# Altium schematic symbol library Capacitors.SchLib: 34 symbols
Pins are listed as number, name and electrical type; pins without a type are passive.

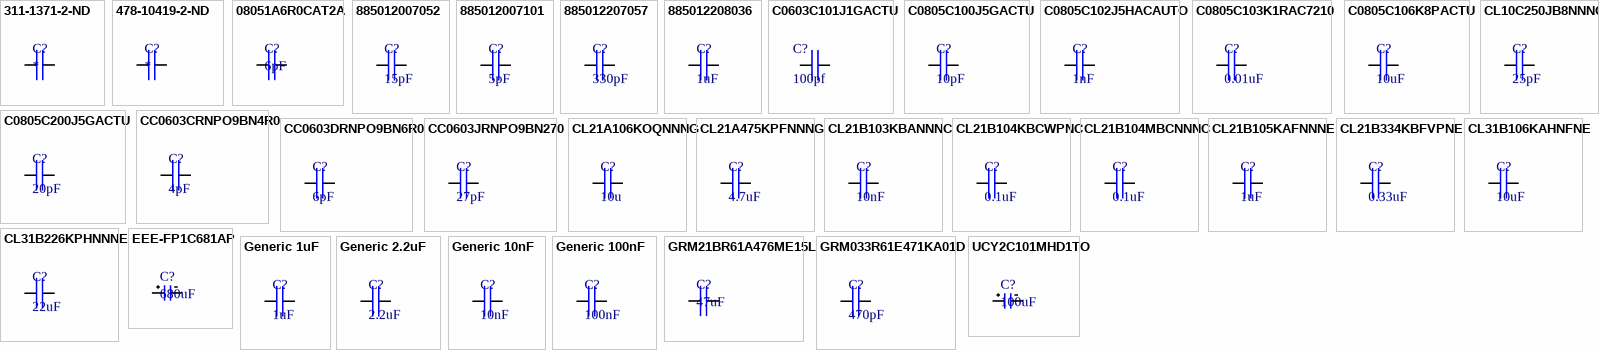
[diagram p0: symbols 311-1371-2-ND to UCY2C101MHD1TO]

## 311-1371-2-ND
designator C?
CAP CER 4.7UF 10V Y5V 0805; Manufacturer 1: Yageo; Manufacturer Part Number 1: CC0805ZRY5V6BB475; Tolerance: 80%; Supplier 1: Digi-Key; Stock 1: 117585; Pricing 1: 1=0.19000, 10=0.13200, 100=0.06670, 500=0.04564, 1000=0.04037 (USD); RoHS: Yes; Mount: Surface Mount; Case/Package: 0805; Number of Pins: 2; Case Code (Metric): 2012; Case Code (Imperial): 0805; Min Operating Temperature: -30°C; Max Operating Temperature: 85°C; Package Quantity: 1; Capacitance: 4.7uF; Voltage Rating: 10V; Packaging: Tape and Reel; Voltage Rating (DC): 10V; Dielectric: Y5V; Termination: SMD/SMT; Composition: Ceramic; Length: 2mm; Height: 0.85mm; Width: 0.049inch; Thickness: 0.033inch; Depth: 1.25mm; Radiation Hardening: No; REACH SVHC: Unknown; Lead Free: Lead Free; Halogen Free: Halogen Free; ComponentLink1URL: https://datasheet.ciiva.com/26863/getdatasheetpartid-251807-26863009.pdf?src-supplier=Verical; ComponentLink1Description: https://datasheet.ciiva.com/26863/getdatasheetpartid-251807-26863009.pdf?src-supplier=Verical; ComponentLink2URL: https://datasheet.ciiva.com/144/mlccorderingcode-144864.pdf?src-supplier=Digi-Key; ComponentLink2Description: https://datasheet.ciiva.com/144/mlccorderingcode-144864.pdf?src-supplier=Digi-Key; ComponentLink3URL: https://datasheet.ciiva.com/144/mlccorderingcode-144865.pdf?src-supplier=Digi-Key; ComponentLink3Description: https://datasheet.ciiva.com/144/mlccorderingcode-144865.pdf?src-supplier=Digi-Key; ComponentLink4URL: https://datasheet.ciiva.com/11465/upy-gphc-y5v-6-3v-to-50v-5-11465845.pdf?src-supplier=Avnet; ComponentLink4Description: https://datasheet.ciiva.com/11465/upy-gphc-y5v-6-3v-to-50v-5-11465845.pdf?src-supplier=Avnet; ComponentLink5URL: https://datasheet.ciiva.com/16624/upy-gphc-y5v-6-3v-to-50v-5-16624679.pdf?src-supplier=Avnet+Europe; ComponentLink5Description: https://datasheet.ciiva.com/16624/upy-gphc-y5v-6-3v-to-50v-5-16624679.pdf?src-supplier=Avnet+Europe; ComponentLink6URL: https://datasheet.ciiva.com/28450/1132289-28450855.pdf?src-supplier=Element14; ComponentLink6Description: https://datasheet.ciiva.com/28450/1132289-28450855.pdf?src-supplier=Element14; ComponentLink7URL: https://datasheet.ciiva.com/7978/1132289-7978222.pdf?src-supplier=Element14; ComponentLink7Description: https://datasheet.ciiva.com/7978/1132289-7978222.pdf?src-supplier=Element14; ComponentLink8URL: https://datasheet.ciiva.com/144/mlccorderingcode-144863.pdf?src-supplier=Digi-Key; ComponentLink8Description: https://datasheet.ciiva.com/144/mlccorderingcode-144863.pdf?src-supplier=Digi-Key; ComponentLink9URL: https://datasheet.ciiva.com/5425/upy-gp-np0-16v-to-50v-8-5425455.pdf?src-supplier=Mouser; ComponentLink9Description: https://datasheet.ciiva.com/5425/upy-gp-np0-16v-to-50v-8-5425455.pdf?src-supplier=Mouser; ComponentLink10URL: https://datasheet.ciiva.com/17004/upy-gphc-y5v-6-3v-to-50v-5-revised-17004479.pdf?src-supplier=Future+Electronics; ComponentLink10Description: https://datasheet.ciiva.com/17004/upy-gphc-y5v-6-3v-to-50v-5-revised-17004479.pdf?src-supplier=Future+Electronics; Supplier Part Number 1: 311-1371-1-ND
footprint C0805
pins: 1, 2

## 478-10419-2-ND
designator C?
CAP CER 9PF 100V NP0 0805; Manufacturer 1: Kyocera AVX; Manufacturer Part Number 1: 08051A9R0CAT2A; Dielectric: C0G; Supplier 1: Digi-Key; Stock 1: 10689; Pricing 1: 1=0.24000, 10=0.16700, 100=0.09460, 500=0.06680, 1000=0.05844 (USD); RoHS: Yes; Mount: Surface Mount; Case/Package: 0805; Weight: 0.000194oz; Case Code (Imperial): 0805; Case Code (Metric): 2012; Min Operating Temperature: -55°C; Max Operating Temperature: 125°C; Packaging: Tape and Reel; Capacitance: 9pF; Package Quantity: 4000; Voltage Rating: 100V; Voltage Rating (DC): 100V; Termination: SMD/SMT; Length: 2.01mm; Width: 1.25mm; Thickness: 0.037inch; Depth: 1.25mm; Radiation Hardening: No; ComponentLink1URL: https://datasheet.ciiva.com/11569/ccog-11569685.pdf?src-supplier=Avnet; ComponentLink1Description: https://datasheet.ciiva.com/11569/ccog-11569685.pdf?src-supplier=Avnet; ComponentLink2URL: https://datasheet.ciiva.com/5435/ccog-243403-5435993.pdf?src-supplier=Mouser; ComponentLink2Description: https://datasheet.ciiva.com/5435/ccog-243403-5435993.pdf?src-supplier=Mouser; ComponentLink3URL: https://datasheet.ciiva.com/204/ccog-204956.pdf?src-supplier=Digi-Key; ComponentLink3Description: https://datasheet.ciiva.com/204/ccog-204956.pdf?src-supplier=Digi-Key; Supplier Part Number 1: 478-10419-1-ND
pins: 1, 2

## 08051A6R0CAT2A
designator C?, comment 6pF
CAP CER 6PF 100V C0G/NP0 0805; Capacitance: 9pF; Dielectric: C0G; RoHS: Yes; Mount: Surface Mount; Case/Package: 0805; Weight: 0.000194oz; Case Code (Imperial): 0805; Case Code (Metric): 2012; Min Operating Temperature: -55°C; Max Operating Temperature: 125°C; Packaging: Tape and Reel; Package Quantity: 4000; Voltage Rating: 100V; Voltage Rating (DC): 100V; Termination: SMD/SMT; Length: 2.01mm; Width: 1.25mm; Thickness: 0.037inch; Depth: 1.25mm; Radiation Hardening: No; ComponentLink1Description: https://www.digikey.com/product-detail/en/avx-corporation/08051A6R0CAT2A/478-10411-2-ND/1601219; ComponentLink1URL: https://www.digikey.com/product-detail/en/avx-corporation/08051A6R0CAT2A/478-10411-2-ND/1601219; Supplier 1: Digi-Key; Supplier Part Number 1: 478-10411-2-ND
footprint C0805
pins: 1, 2

## 885012007052
designator C?, comment 15pF
CAP CER 15PF 50V C0G/NP0 0805; Manufacturer: Wurth Electronics; Manufacturer Part Number: 885012007052; Tolerance: 5%; Supplier 1: Digi-Key; Supplier Part Number 1: 732-7847-1-ND; RoHS: Yes; Category: Ceramic Capacitors; Stock 1: 5633; Mount: Surface Mount; Case/Package: 0805; Case Code (Metric): 2012; Case Code (Imperial): 0805; Min Operating Temperature: -55°C; Max Operating Temperature: 125°C; Packaging: Cut Tape; Capacitance: 15pF; Voltage Rating: 50V; Length: 0.079inch; Width: 0.049inch; Thickness: 0.028inch; ComponentLink1URL: http://www.farnell.com/datasheets/2031702.pdf?src-supplier=Farnell; ComponentLink1Description: http://www.farnell.com/datasheets/2031702.pdf?src-supplier=Farnell; ComponentLink2URL: https://katalog.we-online.de/pbs/datasheet/885012007052.pdf?src-supplier=Digi-Key; ComponentLink2Description: https://katalog.we-online.de/pbs/datasheet/885012007052.pdf?src-supplier=Digi-Key; ComponentLink3URL: http://katalog.we-online.de/pbs/datasheet/885012007052.pdf?src-supplier=Digi-Key; ComponentLink3Description: http://katalog.we-online.de/pbs/datasheet/885012007052.pdf?src-supplier=Digi-Key
footprint 0805
pins: 1, 2

## 885012007101
designator C?, comment 5pF
CAP CER 5PF 100V C0G/NP0 0805; Manufacturer: Wurth Electronics; Manufacturer Part Number: 885012007101; Supplier 1: Digi-Key; Supplier Part Number 1: 732-12221-1-ND; RoHS: No; Stock 1: 1082; Mount: Surface Mount; Case/Package: 0805; Case Code (Imperial): 0805; Case Code (Metric): 2012; Min Operating Temperature: -55°C; Max Operating Temperature: 125°C; Packaging: Cut Tape; Capacitance: 5pF; Voltage Rating: 100V; ComponentLink1URL: https://katalog.we-online.de/pbs/datasheet/885012007101.pdf?src-supplier=Digi-Key; ComponentLink1Description: https://katalog.we-online.de/pbs/datasheet/885012007101.pdf?src-supplier=Digi-Key
footprint 0805
pins: 1, 2

## 885012207057
designator C?, comment 330pF
330pF 25V Ceramic Capacitor X7R 0805 (2012 Metric) 0.079" L x 0.049" W (2.00mm x 1.25mm); Manufacturer: Wurth Electronics; Manufacturer Part Number: 885012207057; Tolerance: 10%; Supplier 1: Digi-Key; Supplier Part Number 1: 732-8049-1-ND; RoHS: Yes; Category: Ceramic Capacitors; Stock 1: 4138; Mount: Surface Mount; Case/Package: 0805; Case Code (Imperial): 0805; Case Code (Metric): 2012; Min Operating Temperature: -55°C; Max Operating Temperature: 125°C; Packaging: Cut Tape; Capacitance: 330pF; Voltage Rating: 25V; Length: 0.079inch; Width: 0.049inch; Thickness: 0.035inch; ComponentLink1URL: http://www.farnell.com/datasheets/2546889.pdf?src-supplier=Farnell; ComponentLink1Description: http://www.farnell.com/datasheets/2546889.pdf?src-supplier=Farnell; ComponentLink2URL: https://katalog.we-online.de/pbs/datasheet/885012207057.pdf?src-supplier=Digi-Key; ComponentLink2Description: https://katalog.we-online.de/pbs/datasheet/885012207057.pdf?src-supplier=Digi-Key
footprint C0805
pins: 1, 2

## 885012208036
designator C?, comment 1uF
CAP CER 1UF 16V X7R 1206; Manufacturer: Wurth Electronics; Manufacturer Part Number: 885012208036; Tolerance: 10%; Supplier 1: Digi-Key; Supplier Part Number 1: 732-7692-1-ND; RoHS: Yes; Category: Ceramic Capacitors; Stock 1: 2993; Mount: Surface Mount; Case/Package: 1206; Case Code (Imperial): 1206; Case Code (Metric): 3216; Min Operating Temperature: -55°C; Max Operating Temperature: 125°C; Packaging: Tape and Reel; Capacitance: 1uF; Voltage Rating: 16V; Length: 0.126inch; Width: 0.063inch; Thickness: 0.051inch; ComponentLink1URL: http://katalog.we-online.de/pbs/datasheet/885012208036.pdf?src-supplier=Digi-Key; ComponentLink1Description: http://katalog.we-online.de/pbs/datasheet/885012208036.pdf?src-supplier=Digi-Key; ComponentLink2URL: https://katalog.we-online.de/pbs/datasheet/885012208036.pdf?src-supplier=Digi-Key; ComponentLink2Description: https://katalog.we-online.de/pbs/datasheet/885012208036.pdf?src-supplier=Digi-Key
footprint 1206
pins: 1, 2

## C0603C101J1GACTU
designator C?, comment 100pf
KEMET - C0603C101J1GACTU - Multilayer Ceramic Capacitor, C Series, 100 pF, - 5%, C0G / NP0, 100 V, 0603 [1608 Metric] RoHS Compliant: Yes; Voltage Rating (DC): 100V; Supplier 1: Digi-Key; Manufacturer: KEMET; Manufacturer Part Number: C0603C101J1GACTU; RoHS: Yes; Category: Ceramic Capacitors; Stock 1: 130500; Pricing 1: 1=0.10000, 10=0.06000, 100=0.02670, 500=0.01906, 1000=0.01497 (USD); Mount: Surface Mount; Case/Package: 0603; Dielectric Material: Ceramic; Min Operating Temperature: -55°C; Max Operating Temperature: 125°C; Capacitance: 100pF; Tolerance: 5%; Packaging: Tape and Reel; Dielectric: C0G; Length: 1.6mm; Height: 0.8mm; Depth: 0.8mm; Radiation Hardening: No; Lead Free: Lead Free; ComponentLink1URL: https://datasheet.ciiva.com/18192/getdatasheetpartid-308025-18192620.pdf?src-supplier=Verical; ComponentLink1Description: https://datasheet.ciiva.com/18192/getdatasheetpartid-308025-18192620.pdf?src-supplier=Verical; Supplier Part Number 1: 399-7821-1-ND
footprint 0603
pins: 1, 2

## C0805C100J5GACTU
designator C?, comment 10pF
KEMET - C0805C100J5GACTU - Condensateur céramique multicouche CMS, 10 pF, 50 V, 0805 [2012 Metric], ± 5%, C0G / NP0; Dielectric Material: Ceramic; Voltage Rating (DC): 50V; Dissipation Factor: 0.1%; Temperature Coefficient: 30ppm/°C; Supplier 1: Digi-Key; Manufacturer: KEMET; Manufacturer Part Number: C0805C100J5GACTU; RoHS: Yes; Category: Ceramic Capacitors; Stock 1: 197702; Pricing 1: 1=0.11000, 10=0.08100, 100=0.03800, 500=0.02664, 1000=0.02205 (USD); Mount: PCB,Surface Mount; Case/Package: 0805; Number of Pins: 2; Case Code (Metric): 2012; Case Code (Imperial): 0805; Contact Plating: Tin,Matte; Contact Material: Tin; Min Operating Temperature: -55°C; Max Operating Temperature: 125°C; Capacitance: 10pF; Packaging: Tape and Reel; Dielectric: C0G; Termination: SMD/SMT; Package Quantity: 4000; Voltage Rating: 50V; Tolerance: 5%; Voltage: 50V; Length: 2mm; Height: 0.78mm; Width: 1.2mm; Depth: 1.25mm; Thickness: 0.035inch; Lead Pitch: 0.75mm; Radiation Hardening: No; Lead Free: Lead Free; REACH SVHC: No SVHC; ComponentLink1URL: https://datasheet.ciiva.com/2988/kem-c1003-c0g-smd-2988556.pdf?src-supplier=Avnet; ComponentLink1Description: https://datasheet.ciiva.com/2988/kem-c1003-c0g-smd-2988556.pdf?src-supplier=Avnet; ComponentLink2URL: https://datasheet.ciiva.com/6177/kem-c1003-c0g-smd-6177333.pdf?src-supplier=Farnell; ComponentLink2Description: https://datasheet.ciiva.com/6177/kem-c1003-c0g-smd-6177333.pdf?src-supplier=Farnell; ComponentLink3URL: https://datasheet.ciiva.com/5423/kem-c1003-c0g-smd-356956-5423483.pdf?src-supplier=Mouser; ComponentLink3Description: https://datasheet.ciiva.com/5423/kem-c1003-c0g-smd-356956-5423483.pdf?src-supplier=Mouser; ComponentLink4URL: https://datasheet.ciiva.com/14609/70095383-14609227.pdf?src-supplier=Allied+Electronics; ComponentLink4Description: https://datasheet.ciiva.com/14609/70095383-14609227.pdf?src-supplier=Allied+Electronics; Supplier Part Number 1: 399-1108-1-ND
footprint 0805
pins: 1, 2

## C0805C102J5HACAUTO
designator C?, comment 1nF
CAP CER 0805 1NF 50V ULTRA STABL; Manufacturer: KEMET; Manufacturer Part Number: C0805C102J5HACAUTO; Supplier 1: Digi-Key; Supplier Part Number 1: 399-16591-1-ND; Stock 1: 1854; Pricing 1: 1 = 0.21000, 10 = 0.15100, 100 = 0.07080, 500 = 0.04964, 1000 = 0.04109 (USD); RoHS: No; ComponentLink1URL: https://api.kemet.com/component-edge/download/datasheet/C0805C102J5HACAUTO.pdf?src-supplier=Digi-Key; ComponentLink1Description: https://api.kemet.com/component-edge/download/datasheet/C0805C102J5HACAUTO.pdf?src-supplier=Digi-Key; Category: Capacitors
footprint C0805
pins: 1, 2

## C0805C103K1RAC7210
designator C?, comment 0.01uF
Cap Ceramic 0.01uF 100V X7R 10% SMD 0805 125C T/R; Manufacturer: KEMET; Manufacturer Part Number: C0805C103K1RAC7210; Capacitance: 10nF; Supplier 1: Digi-Key; Supplier Part Number 1: 399-17617-1-ND; RoHS: Yes; Category: Ceramic Capacitors; Stock 1: 43378; Mount: Surface Mount; Case/Package: 0805; Case Code (Imperial): 0805; Case Code (Metric): 2012; Dielectric Material: Ceramic; Min Operating Temperature: -55°C; Max Operating Temperature: 125°C; Dielectric: X7R; Tolerance: 10%; Termination: SMD/SMT; Packaging: Tape and Reel; Package Quantity: 10000; Voltage Rating: 100V; Voltage Rating (DC): 100V; Length: 2mm; Height: 0.78mm; Depth: 1.25mm; Radiation Hardening: No; ComponentLink1URL: http://www.mouser.com/ds/2/212/KEM_C1002_X7R_SMD-1102033.pdf?src-supplier=Mouser; ComponentLink1Description: http://www.mouser.com/ds/2/212/KEM_C1002_X7R_SMD-1102033.pdf?src-supplier=Mouser; ComponentLink2URL: https://www.verical.com/server-webapp/html/getDatasheet?partID=131027&src-supplier=Verical; ComponentLink2Description: https://www.verical.com/server-webapp/html/getDatasheet?partID=131027&src-supplier=Verical; ComponentLink3URL: http://components.arrow.com/part/dataview/0323_00324583?src-supplier=Arrow+Europe; ComponentLink3Description: http://components.arrow.com/part/dataview/0323_00324583?src-supplier=Arrow+Europe; ComponentLink4URL: http://www.farnell.com/datasheets/2747800.pdf?src-supplier=Farnell; ComponentLink4Description: http://www.farnell.com/datasheets/2747800.pdf?src-supplier=Farnell; ComponentLink5URL: http://components.arrow.com/part/dataview/2091052S6675795N7429?src-supplier=Arrow; ComponentLink5Description: http://components.arrow.com/part/dataview/2091052S6675795N7429?src-supplier=Arrow; ComponentLink6URL: http://www.farnell.com/datasheets/2747800.pdf?src-supplier=Newark; ComponentLink6Description: http://www.farnell.com/datasheets/2747800.pdf?src-supplier=Newark; ComponentLink7URL: http://www.kemet.com/kemet/web/homepage/kechome.nsf/weben/C4DA2DA1D1C9D3C3CA2570A50016092D/$file/KEM_C1002_X7R_SMD.pdf?src-supplier=Avnet+Europe; ComponentLink7Description: http://www.kemet.com/kemet/web/homepage/kechome.nsf/weben/C4DA2DA1D1C9D3C3CA2570A50016092D/$file/KEM_C1002_X7R_SMD.pdf?src-supplier=Avnet+Europe; ComponentLink8URL: http://www.kemet.com/kemet/web/homepage/kechome.nsf/weben/C4DA2DA1D1C9D3C3CA2570A50016092D/$file/KEM_C1002_X7R_SMD.pdf?src-supplier=Avnet; ComponentLink8Description: http://www.kemet.com/kemet/web/homepage/kechome.nsf/weben/C4DA2DA1D1C9D3C3CA2570A50016092D/$file/KEM_C1002_X7R_SMD.pdf?src-supplier=Avnet; ComponentLink9URL: https://api.kemet.com/component-edge/download/datasheet/C0805C103K1RAC7210.pdf?src-supplier=Digi-Key; ComponentLink9Description: https://api.kemet.com/component-edge/download/datasheet/C0805C103K1RAC7210.pdf?src-supplier=Digi-Key
footprint 0805
pins: 1, 2

## C0805C106K8PACTU
designator C?, comment 10uF
CAP CER 10UF 10V X5R 0805; Manufacturer: Samsung; Manufacturer Part Number: CL21B105KAFNNNE; Capacitance: 1uF; Tolerance: 10%; Voltage Rating: 25V; Dielectric: X7R; RoHS: Yes; Mount: Surface Mount; Case/Package: 0805; Contact Plating: Tin; Case Code (Metric): 2012; Case Code (Imperial): 0805; Min Operating Temperature: -55°C; Max Operating Temperature: 125°C; Packaging: Tape and Reel; Package Quantity: 1; Voltage: 25V; Voltage Rating (DC): 25V; Length: 2mm; Height: 1.25mm; Depth: 1.25mm; Width: 0.049inch; Thickness: 0.053inch; Radiation Hardening: No; Lead Free: Lead Free; Category: Capacitors; ComponentLink1Description: https://www.digikey.ca/product-detail/en/kemet/C0805C106K8PACTU/399-4925-1-ND/1090920; ComponentLink1URL: https://www.digikey.ca/product-detail/en/kemet/C0805C106K8PACTU/399-4925-1-ND/1090920; Supplier 1: Digi-Key; Supplier Part Number 1: 399-4925-1-ND
footprint C0805
pins: 1, 2

## C0805C200J5GACTU
designator C?, comment 20pF
CAP CER 20PF 50V C0G/NP0 0805; Manufacturer: Samsung; Manufacturer Part Number: CL21B103KBANNNC; Material: Ceramic; Capacitance: 10nF; Tolerance: 10%; Dielectric: X7R; RoHS: Yes; Mount: Surface Mount; Case/Package: 0805; Case Code (Metric): 2012; Case Code (Imperial): 0805; Contact Plating: Tin; Min Operating Temperature: -55°C; Max Operating Temperature: 125°C; Packaging: Tape and Reel; Voltage Rating: 50V; Voltage: 50V; Voltage Rating (DC): 50V; Length: 2mm; Height: 0.65mm; Width: 0.049inch; Thickness: 0.03inch; Depth: 1.25mm; Radiation Hardening: No; Lead Free: Lead Free; Category: Capacitors; ComponentLink1Description: https://www.digikey.com/product-detail/en/kemet/C0805C200J5GACTU/399-8033-1-ND/3471756; ComponentLink1URL: https://www.digikey.com/product-detail/en/kemet/C0805C200J5GACTU/399-8033-1-ND/3471756; Supplier 1: Digi-Key; Supplier Part Number 1: 399-8033-1-ND
footprint C0805
pins: 1, 2

## CC0603CRNPO9BN4R0
designator C?, comment 4pF
CAP CER 4PF 50V C0G/NPO 0603; Manufacturer: Yageo; Manufacturer Part Number: CC0603CRNPO9BN4R0; Dielectric: C0G; Insulation Resistance: 10GR; Supplier 1: Digi-Key; Supplier Part Number 1: 311-1053-1-ND; RoHS: Yes; Category: Ceramic Capacitors; Stock 1: 1954; Mount: Surface Mount; Case/Package: 0603; Number of Pins: 2; Weight: 7.1E-05oz; Case Code (Imperial): 0603; Case Code (Metric): 1608; Min Operating Temperature: -55°C; Max Operating Temperature: 125°C; Termination: SMD/SMT; Composition: Ceramic; Capacitance: 4pF; Packaging: Tape and Reel; Voltage Rating: 50V; Voltage Rating (DC): 50V; Package Quantity: 1; Length: 1.6mm; Thickness: 0.035inch; Depth: 0.8mm; Width: 0.8mm; Lead Free: Lead Free; ComponentLink1URL: https://datasheet.ciiva.com/145/mlccorderingcode-145161.pdf?src-supplier=Digi-Key; ComponentLink1Description: https://datasheet.ciiva.com/145/mlccorderingcode-145161.pdf?src-supplier=Digi-Key; ComponentLink2URL: https://datasheet.ciiva.com/145/mlccorderingcode-145162.pdf?src-supplier=Digi-Key; ComponentLink2Description: https://datasheet.ciiva.com/145/mlccorderingcode-145162.pdf?src-supplier=Digi-Key; ComponentLink3URL: https://datasheet.ciiva.com/145/mlccorderingcode-145163.pdf?src-supplier=Digi-Key; ComponentLink3Description: https://datasheet.ciiva.com/145/mlccorderingcode-145163.pdf?src-supplier=Digi-Key
footprint 0603
pins: 1, 2

## CC0603DRNPO9BN6R0
designator C?, comment 6pF
CAP CER 6PF 50V C0G/NPO 0603; Manufacturer: Yageo; Manufacturer Part Number: CC0603DRNPO9BN6R0; Dielectric: C0G; Supplier 1: Digi-Key; Supplier Part Number 1: 311-1055-1-ND; RoHS: Yes; Category: Ceramic Capacitors; Stock 1: 25117; Mount: Surface Mount; Case/Package: 0603; Weight: 7.1E-05oz; Case Code (Imperial): 0603; Case Code (Metric): 1608; Min Operating Temperature: -55°C; Max Operating Temperature: 125°C; Capacitance: 6pF; Packaging: Tape and Reel; Voltage Rating: 50V; Voltage Rating (DC): 50V; Package Quantity: 1; Termination: SMD/SMT; Composition: Ceramic; Length: 1.6mm; Width: 0.8mm; Thickness: 0.035inch; Depth: 0.8mm; Lead Free: Lead Free; ComponentLink1URL: https://datasheet.ciiva.com/145/mlccorderingcode-145158.pdf?src-supplier=Digi-Key; ComponentLink1Description: https://datasheet.ciiva.com/145/mlccorderingcode-145158.pdf?src-supplier=Digi-Key; ComponentLink2URL: https://datasheet.ciiva.com/145/mlccorderingcode-145159.pdf?src-supplier=Digi-Key; ComponentLink2Description: https://datasheet.ciiva.com/145/mlccorderingcode-145159.pdf?src-supplier=Digi-Key; ComponentLink3URL: https://datasheet.ciiva.com/145/mlccorderingcode-145160.pdf?src-supplier=Digi-Key; ComponentLink3Description: https://datasheet.ciiva.com/145/mlccorderingcode-145160.pdf?src-supplier=Digi-Key
footprint 0603
pins: 1, 2

## CC0603JRNPO9BN270
designator C?, comment 27pF
Cap Ceramic 27pF 50VDC C0G 5% SMD 0603 Paper T/R; Manufacturer: Yageo; Manufacturer Part Number: CC0603JRNPO9BN270; Tolerance: 10%; Voltage: 50V; Insulation Resistance: 100GR; Temperature Coefficient: 0ppm/°C; Supplier 1: Digi-Key; Supplier Part Number 1: 311-1063-1-ND; RoHS: Yes; Category: Ceramic Capacitors; Stock 1: 148250; Mount: Surface Mount; Case/Package: 0603; Number of Pins: 2; Case Code (Metric): 1608; Case Code (Imperial): 0603; Dielectric Material: Ceramic; Min Operating Temperature: -55°C; Max Operating Temperature: 125°C; Dielectric: C0G; Capacitance: 27pF; Package Quantity: 1; Voltage Rating: 50V; Packaging: Tape and Reel; Voltage Rating (DC): 50V; Termination: SMD/SMT; Composition: Ceramic; Length: 1.6mm; Height: 0.8mm; Width: 0.031inch; Thickness: 0.035inch; Depth: 0.8mm; Radiation Hardening: No; REACH SVHC: Unknown; Lead Free: Lead Free; ComponentLink1URL: https://datasheet.ciiva.com/26862/getdatasheetpartid-403529-26862764.pdf?src-supplier=Verical; ComponentLink1Description: https://datasheet.ciiva.com/26862/getdatasheetpartid-403529-26862764.pdf?src-supplier=Verical; ComponentLink2URL: https://datasheet.ciiva.com/144/mlccorderingcode-144640.pdf?src-supplier=Digi-Key; ComponentLink2Description: https://datasheet.ciiva.com/144/mlccorderingcode-144640.pdf?src-supplier=Digi-Key; ComponentLink3URL: https://datasheet.ciiva.com/144/mlccorderingcode-144641.pdf?src-supplier=Digi-Key; ComponentLink3Description: https://datasheet.ciiva.com/144/mlccorderingcode-144641.pdf?src-supplier=Digi-Key; ComponentLink4URL: https://datasheet.ciiva.com/144/mlccorderingcode-144642.pdf?src-supplier=Digi-Key; ComponentLink4Description: https://datasheet.ciiva.com/144/mlccorderingcode-144642.pdf?src-supplier=Digi-Key; ComponentLink5URL: https://datasheet.ciiva.com/11464/upy-gp-np0-16v-to-50v-8-11464729.pdf?src-supplier=Avnet; ComponentLink5Description: https://datasheet.ciiva.com/11464/upy-gp-np0-16v-to-50v-8-11464729.pdf?src-supplier=Avnet; ComponentLink6URL: https://datasheet.ciiva.com/46430/1835847-46430154.pdf?src-supplier=Element14; ComponentLink6Description: https://datasheet.ciiva.com/46430/1835847-46430154.pdf?src-supplier=Element14; ComponentLink7URL: https://datasheet.ciiva.com/8033/1734582-8033725.pdf?src-supplier=Element14; ComponentLink7Description: https://datasheet.ciiva.com/8033/1734582-8033725.pdf?src-supplier=Element14; ComponentLink8URL: https://datasheet.ciiva.com/8033/1443161-8033757.pdf?src-supplier=Element14; ComponentLink8Description: https://datasheet.ciiva.com/8033/1443161-8033757.pdf?src-supplier=Element14; ComponentLink9URL: https://datasheet.ciiva.com/8033/1734582-8033726.pdf?src-supplier=Element14; ComponentLink9Description: https://datasheet.ciiva.com/8033/1734582-8033726.pdf?src-supplier=Element14; ComponentLink10URL: https://datasheet.ciiva.com/16625/upy-gp-np0-16v-to-50v-8-16625519.pdf?src-supplier=Avnet+Europe; ComponentLink10Description: https://datasheet.ciiva.com/16625/upy-gp-np0-16v-to-50v-8-16625519.pdf?src-supplier=Avnet+Europe
footprint 0603
pins: 1, 2

## CL10C250JB8NNNC
designator C?, comment 25pF
Cap Ceramic 25pF 50V C0G 5% SMD 0603 125C Cardboard T/R; Manufacturer: Samsung; Manufacturer Part Number: CL10C250JB8NNNC; Supplier 1: Digi-Key; Supplier Part Number 1: 1276-2244-1-ND; RoHS: Yes; Category: Ceramic Capacitors; Stock 1: 184474; Mount: Surface Mount; Case/Package: 0603; Case Code (Imperial): 0603; Case Code (Metric): 1608; Min Operating Temperature: -55°C; Max Operating Temperature: 125°C; Capacitance: 25pF; Tolerance: 5%; Dielectric: C0G; Package Quantity: 1; Packaging: Tape and Reel; Voltage Rating: 50V; Voltage Rating (DC): 50V; Length: 1.6mm; Height: 0.8mm; Width: 0.031inch; Thickness: 0.035inch; Depth: 0.8mm; Radiation Hardening: No; ComponentLink1URL: https://datasheet.ciiva.com/25769/cl10c250jb8nnnc-25769377.pdf?src-supplier=Digi-Key; ComponentLink1Description: https://datasheet.ciiva.com/25769/cl10c250jb8nnnc-25769377.pdf?src-supplier=Digi-Key
footprint 0603
pins: 1, 2

## CL21A106KOQNNNG
designator C?, comment 10u
Ceramic capacitor SMD 0805 10 µF 16 V 10 %; Manufacturer: Samsung; Manufacturer Part Number: CL21A106KOQNNNG; Tolerance: 10%; Capacitance: 10uF; Dielectric: X5R; Voltage: 16V; Supplier 1: Digi-Key; Supplier Part Number 1: 1276-6455-1-ND; RoHS: Yes; Category: Ceramic Capacitors; Stock 1: 4927; Mount: Surface Mount; Case/Package: 0805; Case Code (Imperial): 0805; Case Code (Metric): 2012; Material: Ceramic; Min Operating Temperature: -55°C; Max Operating Temperature: 85°C; Packaging: Tape and Reel; Package Quantity: 3000; Voltage Rating: 16V; Length: 2mm; Height: 1.25mm; Depth: 1.25mm; Width: 0.049inch; Thickness: 0.053inch; ComponentLink1URL: https://datasheet.ciiva.com/25730/cl21a106koqnnng-25730226.pdf?src-supplier=Digi-Key; ComponentLink1Description: https://datasheet.ciiva.com/25730/cl21a106koqnnng-25730226.pdf?src-supplier=Digi-Key; ComponentLink2URL: https://datasheet.ciiva.com/29199/454932-da-01-en-vs-kondensator-0805-29199423.pdf?src-supplier=Conrad; ComponentLink2Description: https://datasheet.ciiva.com/29199/454932-da-01-en-vs-kondensator-0805-29199423.pdf?src-supplier=Conrad
footprint C0805
pins: 1, 2

## CL21A475KPFNNNG
designator C?, comment 4.7uF
Cap Ceramic 4.7uF 10V X5R 10% Pad SMD 0805 85°C T/R; Manufacturer: Samsung; Manufacturer Part Number: CL21A475KPFNNNG; Supplier 1: Digi-Key; Supplier Part Number 1: 1276-6464-1-ND; RoHS: Yes; Category: Ceramic Capacitors; Stock 1: 115870; Mount: Surface Mount; Case/Package: 0805; Case Code (Metric): 2012; Case Code (Imperial): 0805; Material: Ceramic; Min Operating Temperature: -55°C; Max Operating Temperature: 85°C; Tolerance: 10%; Capacitance: 4.7uF; Voltage Rating: 10V; Packaging: Tape and Reel; Voltage: 10V; Package Quantity: 3000; Dielectric: X5R; Length: 2mm; Height: 1.25mm; Thickness: 0.053inch; Depth: 1.25mm; Width: 0.049inch; Radiation Hardening: No; Lead Free: Lead Free; ComponentLink1URL: https://datasheet.ciiva.com/26838/getdatasheetpartid-725889-26838629.pdf?src-supplier=Verical; ComponentLink1Description: https://datasheet.ciiva.com/26838/getdatasheetpartid-725889-26838629.pdf?src-supplier=Verical; ComponentLink2URL: https://datasheet.ciiva.com/25731/cl21a475kpfnnng-25731818.pdf?src-supplier=Digi-Key; ComponentLink2Description: https://datasheet.ciiva.com/25731/cl21a475kpfnnng-25731818.pdf?src-supplier=Digi-Key; ComponentLink3URL: https://datasheet.ciiva.com/29199/455289-da-01-en-vs-kondensator-0805-29199364.pdf?src-supplier=Conrad; ComponentLink3Description: https://datasheet.ciiva.com/29199/455289-da-01-en-vs-kondensator-0805-29199364.pdf?src-supplier=Conrad
footprint 0805
pins: 1, 2

## CL21B103KBANNNC
designator C?, comment 10nF
Cap Ceramic 0.01uF 50V X7R 10% SMD 0805 125C Paper T/R; Manufacturer: Samsung; Manufacturer Part Number: CL21B103KBANNNC; Supplier 1: Digi-Key; Supplier Part Number 1: 1276-1015-1-ND; Stock 1: 5594647; Pricing 1: 1 = 0.10000, 10 = 0.04100, 100 = 0.01830, 500 = 0.01310, 1000 = 0.01030 (USD); RoHS: Yes; Mount: Surface Mount; Case/Package: 0805; Case Code (Metric): 2012; Case Code (Imperial): 0805; Material: Ceramic; Contact Plating: Tin; Min Operating Temperature: -55°C; Max Operating Temperature: 125°C; Capacitance: 10nF; Tolerance: 10%; Packaging: Tape and Reel; Voltage Rating: 50V; Dielectric: X7R; Voltage: 50V; Voltage Rating (DC): 50V; Length: 2mm; Height: 0.65mm; Width: 0.049inch; Thickness: 0.03inch; Depth: 1.25mm; Radiation Hardening: No; Lead Free: Lead Free; ComponentLink1URL: https://datasheet.ciiva.com/25709/cl21b103kbannnc-25709781.pdf?src-supplier=Digi-Key; ComponentLink1Description: https://datasheet.ciiva.com/25709/cl21b103kbannnc-25709781.pdf?src-supplier=Digi-Key; ComponentLink2URL: https://datasheet.ciiva.com/26838/getdatasheetpartid-358359-26838647.pdf?src-supplier=Verical; ComponentLink2Description: https://datasheet.ciiva.com/26838/getdatasheetpartid-358359-26838647.pdf?src-supplier=Verical; ComponentLink3URL: https://datasheet.ciiva.com/29199/455082-da-01-en-vs-kondensator-0805-29199459.pdf?src-supplier=Conrad; ComponentLink3Description: https://datasheet.ciiva.com/29199/455082-da-01-en-vs-kondensator-0805-29199459.pdf?src-supplier=Conrad; ComponentLink4URL: https://datasheet.ciiva.com/16199/cl05b104kq5nnnc-16199304.pdf?src-supplier=Future+Electronics; ComponentLink4Description: https://datasheet.ciiva.com/16199/cl05b104kq5nnnc-16199304.pdf?src-supplier=Future+Electronics; ComponentLink5URL: https://datasheet.ciiva.com/26310/mlcc-catalogdownload2013-eng-26310223.pdf?src-supplier=Distrelec; ComponentLink5Description: https://datasheet.ciiva.com/26310/mlcc-catalogdownload2013-eng-26310223.pdf?src-supplier=Distrelec; Category: Capacitors
footprint C0805
pins: 1, 2

## CL21B104KBCWPNC
designator C?, comment 0.1uF
CAP CER 0.1UF 50V X7R 0805; Manufacturer: Samsung; Manufacturer Part Number: CL21B104KBCWPNC; Capacitance: 100nF; Tolerance: 10%; Supplier 1: Digi-Key; Supplier Part Number 1: 1276-6557-1-ND; Stock 1: 6545; Pricing 1: 1 = 0.10000, 10 = 0.06700, 100 = 0.02990, 500 = 0.02138, 1000 = 0.01680 (USD); RoHS: Yes; Mount: Surface Mount; Case/Package: 0805; Case Code (Metric): 2012; Case Code (Imperial): 0805; Min Operating Temperature: -55°C; Max Operating Temperature: 125°C; Packaging: Tape and Reel; Voltage Rating: 50V; Features: Soft Termination; Length: 0.079inch; Width: 0.049inch; Thickness: 0.053inch; Ratings: AEC-Q200; Category: Capacitors
footprint C0805
pins: 1, 2

## CL21B104MBCNNNC
designator C?, comment 0.1uF
Cap Ceramic 0.1uF 50V X7R 20% SMD 0805 125C Paper T/R; Manufacturer: Samsung; Manufacturer Part Number: CL21B104MBCNNNC; Capacitance: 100nF; Supplier 1: Newark; Supplier Part Number 1: 82AC9432; RoHS: Yes; Category: Ceramic Capacitors; Stock 1: 64000; Pricing 1: 4000=0.01100, 8000=0.01000 (CAD); Mount: Surface Mount; Case/Package: 0805; Case Code (Imperial): 0805; Case Code (Metric): 2012; Min Operating Temperature: -55°C; Max Operating Temperature: 125°C; Tolerance: 20%; Dielectric: X7R; Voltage: 50V; Package Quantity: 1; Packaging: Tape and Reel; Voltage Rating: 50V; Voltage Rating (DC): 50V; Length: 2mm; Height: 0.85mm; Depth: 1.25mm; Width: 0.049inch; Thickness: 0.037inch; Radiation Hardening: No; Lead Free: Lead Free; ComponentLink1URL: https://datasheet.ciiva.com/16428/cl21b104mbcnnnc-16428869.pdf?src-supplier=Future+Electronics; ComponentLink1Description: https://datasheet.ciiva.com/16428/cl21b104mbcnnnc-16428869.pdf?src-supplier=Future+Electronics; ComponentLink2URL: https://datasheet.ciiva.com/26838/getdatasheetpartid-746552-26838664.pdf?src-supplier=Verical; ComponentLink2Description: https://datasheet.ciiva.com/26838/getdatasheetpartid-746552-26838664.pdf?src-supplier=Verical; ComponentLink3URL: https://datasheet.ciiva.com/25780/cl21b104mbcnnnc-25780224.pdf?src-supplier=Digi-Key; ComponentLink3Description: https://datasheet.ciiva.com/25780/cl21b104mbcnnnc-25780224.pdf?src-supplier=Digi-Key
footprint 0805
pins: 1, 2

## CL21B105KAFNNNE
designator C?, comment 1uF
Cap Ceramic 1uF 25V X7R 10% SMD 0805 125C T/R; Manufacturer: Samsung; Manufacturer Part Number: CL21B105KAFNNNE; Supplier 1: Digi-Key; Supplier Part Number 1: 1276-1066-1-ND; Stock 1: 1606570; Pricing 1: 1 = 0.10000, 10 = 0.07600, 100 = 0.03380, 500 = 0.02416, 1000 = 0.01898 (USD); RoHS: Yes; Mount: Surface Mount; Case/Package: 0805; Contact Plating: Tin; Case Code (Metric): 2012; Case Code (Imperial): 0805; Min Operating Temperature: -55°C; Max Operating Temperature: 125°C; Packaging: Tape and Reel; Package Quantity: 1; Capacitance: 1uF; Tolerance: 10%; Voltage Rating: 25V; Dielectric: X7R; Voltage: 25V; Voltage Rating (DC): 25V; Length: 2mm; Height: 1.25mm; Depth: 1.25mm; Width: 0.049inch; Thickness: 0.053inch; Radiation Hardening: No; Lead Free: Lead Free; ComponentLink1URL: https://datasheet.ciiva.com/25800/cl21b105kafnnne-25800163.pdf?src-supplier=Digi-Key; ComponentLink1Description: https://datasheet.ciiva.com/25800/cl21b105kafnnne-25800163.pdf?src-supplier=Digi-Key; ComponentLink2URL: https://datasheet.ciiva.com/15195/getdatasheetpartid-355205-15195880.pdf?src-supplier=Verical; ComponentLink2Description: https://datasheet.ciiva.com/15195/getdatasheetpartid-355205-15195880.pdf?src-supplier=Verical; Category: Capacitors
footprint C0805
pins: 1, 2

## CL21B334KBFVPNE
designator C?, comment 0.33uF
CAP CER 0.33UF 50V X7R 0805; Manufacturer: Samsung; Manufacturer Part Number: CL21B334KBFVPNE; Capacitance: 330nF; Tolerance: 10%; Supplier 1: Digi-Key; Supplier Part Number 1: 1276-6813-1-ND; Stock 1: 190572; Pricing 1: 1 = 0.22000, 10 = 0.15200, 100 = 0.07690, 500 = 0.05260, 1000 = 0.04653 (USD); RoHS: Yes; Mount: Surface Mount; Case/Package: 0805; Case Code (Metric): 2012; Case Code (Imperial): 0805; Min Operating Temperature: -55°C; Max Operating Temperature: 125°C; Packaging: Tape and Reel; Voltage Rating: 50V; Features: Soft Termination; Length: 0.079inch; Width: 0.049inch; Thickness: 0.053inch; Ratings: AEC-Q200; Category: Capacitors
footprint C0805
pins: 1, 2

## CL31B106KAHNFNE
designator C?, comment 10uF
CAP CER 10UF 25V X7R 1206; Manufacturer: Samsung; Manufacturer Part Number: CL31B106KAHNFNE; Tolerance: 10%; Supplier 1: Digi-Key; Supplier Part Number 1: 1276-3100-1-ND; RoHS: Yes; Category: Ceramic Capacitors; Stock 1: 1201; Mount: Surface Mount; Case/Package: 1206; Case Code (Metric): 3216; Case Code (Imperial): 1206; Min Operating Temperature: -55°C; Max Operating Temperature: 125°C; Package Quantity: 1; Packaging: Tape and Reel; Capacitance: 10uF; Voltage Rating: 25V; Dielectric: X7R; Length: 3.2mm; Height: 1.6mm; Width: 0.063inch; Thickness: 0.071inch; Depth: 1.6mm; Radiation Hardening: No; Lead Free: Lead Free; ComponentLink1URL: https://datasheet.ciiva.com/25795/cl31b106kahnfne-25795136.pdf?src-supplier=Digi-Key; ComponentLink1Description: https://datasheet.ciiva.com/25795/cl31b106kahnfne-25795136.pdf?src-supplier=Digi-Key
footprint 1206
pins: 1, 2

## CL31B226KPHNNNE
designator C?, comment 22uF
CAP CER 22UF 10V X7R 1206; Manufacturer: Samsung; Manufacturer Part Number: CL31B226KPHNNNE; Tolerance: 10%; Supplier 1: Digi-Key; Supplier Part Number 1: 1276-2769-1-ND; RoHS: Yes; Category: Ceramic Capacitors; Stock 1: 617814; Mount: Surface Mount; Case/Package: 1206; Case Code (Metric): 3216; Case Code (Imperial): 1206; Contact Plating: Tin; Min Operating Temperature: -55°C; Max Operating Temperature: 125°C; Package Quantity: 2000; Packaging: Tape and Reel; Capacitance: 22uF; Voltage Rating: 10V; Dielectric: X7R; Voltage Rating (DC): 10V; Termination: Wraparound; Length: 3.2mm; Thickness: 0.071inch; Width: 0.063inch; Depth: 1.6mm; Radiation Hardening: No; Lead Free: Lead Free; ComponentLink1URL: https://datasheet.ciiva.com/25724/cl31b226kphnnne-25724443.pdf?src-supplier=Digi-Key; ComponentLink1Description: https://datasheet.ciiva.com/25724/cl31b226kphnnne-25724443.pdf?src-supplier=Digi-Key; ComponentLink2URL: https://datasheet.ciiva.com/16384/cl31b226kphnnne-16384588.pdf?src-supplier=Future+Electronics; ComponentLink2Description: https://datasheet.ciiva.com/16384/cl31b226kphnnne-16384588.pdf?src-supplier=Future+Electronics; ComponentLink3URL: https://datasheet.ciiva.com/26838/getdatasheetpartid-710483-26838941.pdf?src-supplier=Verical; ComponentLink3Description: https://datasheet.ciiva.com/26838/getdatasheetpartid-710483-26838941.pdf?src-supplier=Verical
footprint 1206
pins: 1, 2

## EEE-FP1C681AP
designator C?, comment 680uF
CAP ALUM 680UF 20% 16V SMD; Capacitance: 9pF; Voltage Rating: 100V; Dielectric: C0G; RoHS: Yes; Mount: Surface Mount; Case/Package: 0805; Weight: 0.000194oz; Case Code (Imperial): 0805; Case Code (Metric): 2012; Min Operating Temperature: -55°C; Max Operating Temperature: 125°C; Packaging: Tape and Reel; Package Quantity: 4000; Voltage Rating (DC): 100V; Termination: SMD/SMT; Length: 2.01mm; Width: 1.25mm; Thickness: 0.037inch; Depth: 1.25mm; Radiation Hardening: No; ComponentLink1Description: https://www.digikey.ca/product-detail/en/panasonic-electronic-components/EEE-FP1C681AP/PCE4437CT-ND/1246017; ComponentLink1URL: https://www.digikey.ca/product-detail/en/panasonic-electronic-components/EEE-FP1C681AP/PCE4437CT-ND/1246017; Supplier 1: Digi-Key; Supplier Part Number 1: PCE4437CT-ND
footprint EEE-FP1C681AP
pins: 1, 2

## Generic 1uF
designator C?, comment 1uF
1uF 16V 10% X5R 0805 package - Set price to 0 in BOM / Product page: https://www.aliexpress.com/item/32964553793.html?spm=a2g0s.9042311.0.0.6a614c4dI8d4WV
footprint C0805
pins: 1, 2

## Generic 2.2uF
designator C?, comment 2.2uF
2.2uF 16V 10% X5R 0805 package - Set price to 0 in BOM / Product page: https://www.aliexpress.com/item/32964553793.html?spm=a2g0s.9042311.0.0.6a614c4dI8d4WV
footprint C0805
pins: 1, 2

## Generic 10nF
designator C?, comment 10nF
10nF 50V 10% X7R 0805 package - Set price to 0 in BOM / Product page: https://www.aliexpress.com/item/32964553793.html?spm=a2g0s.9042311.0.0.6a614c4dI8d4WV
footprint C0805
pins: 1, 2

## Generic 100nF
designator C?, comment 100nF
100nF 50V 10% X7R 0805 package - Set price to 0 in BOM / Product page: https://www.aliexpress.com/item/32964553793.html?spm=a2g0s.9042311.0.0.6a614c4dI8d4WV
footprint C0805
pins: 1, 2

## GRM21BR61A476ME15L
designator C?, comment 47uF
CAP CER 47UF 10V X5R 0805; Capacitance: 4.7uF; Tolerance: 80%; Dielectric: Y5V; RoHS: Yes; Mount: Surface Mount; Case/Package: 0805; Number of Pins: 2; Case Code (Metric): 2012; Case Code (Imperial): 0805; Min Operating Temperature: -30°C; Max Operating Temperature: 85°C; Package Quantity: 1; Voltage Rating: 10V; Packaging: Tape and Reel; Voltage Rating (DC): 10V; Termination: SMD/SMT; Composition: Ceramic; Length: 2mm; Height: 0.85mm; Width: 0.049inch; Thickness: 0.033inch; Depth: 1.25mm; Radiation Hardening: No; REACH SVHC: Unknown; Lead Free: Lead Free; Halogen Free: Halogen Free; Supplier 1: Digi-Key; Supplier Part Number 1: 490-9961-1-ND
footprint C0805
pins: 1, 2

## GRM033R61E471KA01D
designator C?, comment 470pF
SMD Capacitor X5R_EIA_ with Capacitance: 470pF Tol. 10%. Rated Voltage: 25Vdc; MF: Murata; MP: GRM033R61E471KA01D; Digi-Key_Part_Number: 490-17030-1-ND; SnapEDA_Link: https://www.snapeda.com/parts/GRM033R61E471KA01D/Murata/view-part/1804696/?ref=snap; Package: 0603 Taiyo Yuden; Value: *; Digi-Key_Purchase_URL: https://www.digikey.com/product-detail/en/murata-electronics/GRM033R61E471KA01D/490-17030-1-ND/7602029?utm_source=snapeda&utm_medium=aggregator&utm_campaign=symbol; Supplier 1: Digi-Key; Supplier Part Number 1: 490-17030-1-ND
footprint 0603
pins: 1, 2

## UCY2C101MHD1TO
designator C?, comment 100uF
CAP ALUM 100UF 20% 160V RADIAL; Capacitance: 9pF; Voltage Rating: 100V; Dielectric: C0G; RoHS: Yes; Mount: Surface Mount; Case/Package: 0805; Weight: 0.000194oz; Case Code (Imperial): 0805; Case Code (Metric): 2012; Min Operating Temperature: -55°C; Max Operating Temperature: 125°C; Packaging: Tape and Reel; Package Quantity: 4000; Voltage Rating (DC): 100V; Termination: SMD/SMT; Length: 2.01mm; Width: 1.25mm; Thickness: 0.037inch; Depth: 1.25mm; Radiation Hardening: No; ComponentLink1Description: https://www.digikey.ca/product-detail/en/nichicon/UCY2C101MHD1TO/493-4784-1-ND/3129121; ComponentLink1URL: https://www.digikey.ca/product-detail/en/nichicon/UCY2C101MHD1TO/493-4784-1-ND/3129121; Supplier 1: Digi-Key; Supplier Part Number 1: 493-4784-1-ND
footprint UCY2C101MHD1TO
pins: 1, 2